# EAGLE library part GEC09DABN-M30 (library con-sullins)
HEADER - Vertical
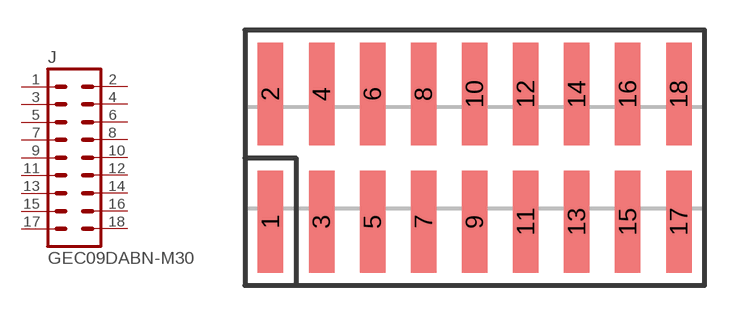
[diagram p6: symbol with the pads of GXC09; footprint GXC09]

Designator prefix J

## GEC09DABN-M30  [GXC09]
1  1  pas
2  2  pas
3  3  pas
4  4  pas
5  5  pas
6  6  pas
7  7  pas
8  8  pas
9  9  pas
10  10  pas
11  11  pas
12  12  pas
13  13  pas
14  14  pas
15  15  pas
16  16  pas
17  17  pas
18  18  pas

## Footprint GXC09 (pad centres in mm)
SMD HEADER - 0.1", Vertical
smd 1.27 x 5.08: 1 -10.16,-3.175; 2 -10.16,3.175; 3 -7.62,-3.175; 4 -7.62,3.175; 5 -5.08,-3.175; 6 -5.08,3.175; 7 -2.54,-3.175; 8 -2.54,3.175; 9 0,-3.175; 10 0,3.175; 11 2.54,-3.175; 12 2.54,3.175; 13 5.08,-3.175; 14 5.08,3.175; 15 7.62,-3.175; 16 7.62,3.175; 17 10.16,-3.175; 18 10.16,3.175